# EAGLE library part SINGLE-BIT_BUS_TRANSCEIVER (library joule_shield)
Texas Instruments single-bit, dual supply bus transceiver
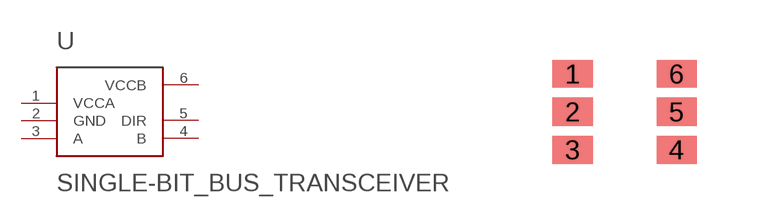
[diagram p2: symbol with the pads of SOT23-6; footprint SOT23-6]

Designator prefix -

## SINGLE-BIT_BUS_TRANSCEIVER  [SOT23-6]
1  VCCA
2  GND
3  A
4  B
5  DIR
6  VCCB

## Footprint SOT23-6 (pad centres in mm)
smd 1 x 0.7: 1 -1.3,0.95; 2 -1.3,0; 3 -1.3,-0.95; 4 1.3,-0.95; 5 1.3,0; 6 1.3,0.95